# EAGLE library part MAX7219CWG+ (library MAX7219CWG+)
MAX7219CWG+, LED Driver, 8-Digits 64-Segments, 5V, 24-Pin SOIC W Source: Datasheet <http://datasheets.maximintegrated.com/en/ds/MAX7219-MAX7221.pdf>
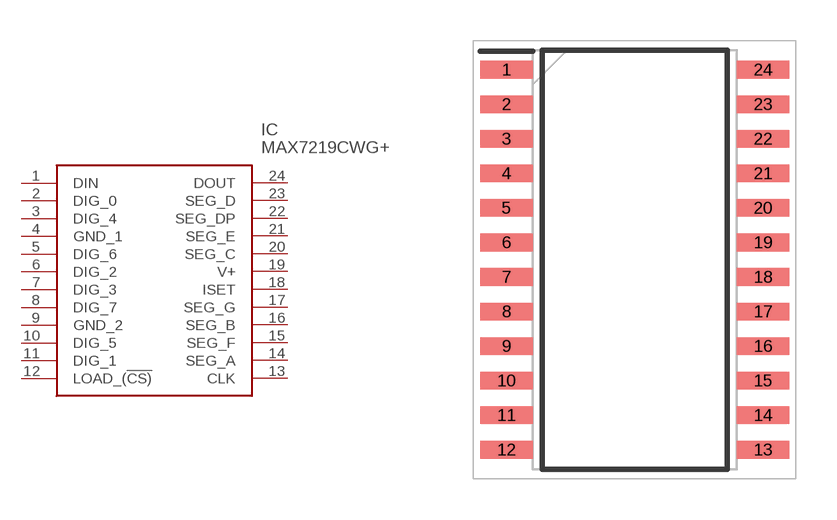
[diagram p0: symbol with the pads of SOIC127P1032X265-24N; footprint SOIC127P1032X265-24N]

Designator prefix IC

## MAX7219CWG+ (Arrow_Part_Number: MAX7219CWG+; Arrow_Price-Stock: https://www.arrow.com/en/products/max7219cwg/maxim-integrated?region=nac; Description: MAX7219CWG+, LED Driver, 8-Digits 64-Segments, 5V, 24-Pin SOIC W; Height: 2.65mm; Manufacturer_Name: Maxim Integrated; Manufacturer_Part_Number: MAX7219CWG+; Mouser_Part_Number: 700-MAX7219CWG; Mouser_Price-Stock: https://www.mouser.co.uk/ProductDetail/Maxim-Integrated/MAX7219CWG%2b?qs=1THa7WoU59FAb2MozDF%2Fgw%3D%3D)  [SOIC127P1032X265-24N]
1  DIN
2  DIG_0
3  DIG_4
4  GND_1
5  DIG_6
6  DIG_2
7  DIG_3
8  DIG_7
9  GND_2
10  DIG_5
11  DIG_1
12  LOAD_(!CS)
13  CLK
14  SEG_A
15  SEG_F
16  SEG_B
17  SEG_G
18  ISET
19  V+
20  SEG_C
21  SEG_E
22  SEG_DP
23  SEG_D
24  DOUT

## Footprint SOIC127P1032X265-24N (pad centres in mm)
MAX 24 Wide SO
smd 1.925 x 0.65: 1 -4.712,6.985; 2 -4.712,5.715; 3 -4.712,4.445; 4 -4.712,3.175; 5 -4.712,1.905; 6 -4.712,0.635; 7 -4.712,-0.635; 8 -4.712,-1.905; 9 -4.712,-3.175; 10 -4.712,-4.445; 11 -4.712,-5.715; 12 -4.712,-6.985; 13 4.712,-6.985; 14 4.712,-5.715; 15 4.712,-4.445; 16 4.712,-3.175; 17 4.712,-1.905; 18 4.712,-0.635; 19 4.712,0.635; 20 4.712,1.905; 21 4.712,3.175; 22 4.712,4.445; 23 4.712,5.715; 24 4.712,6.985